# EAGLE library part FPC-37WAY (library pimoroni-fpc)
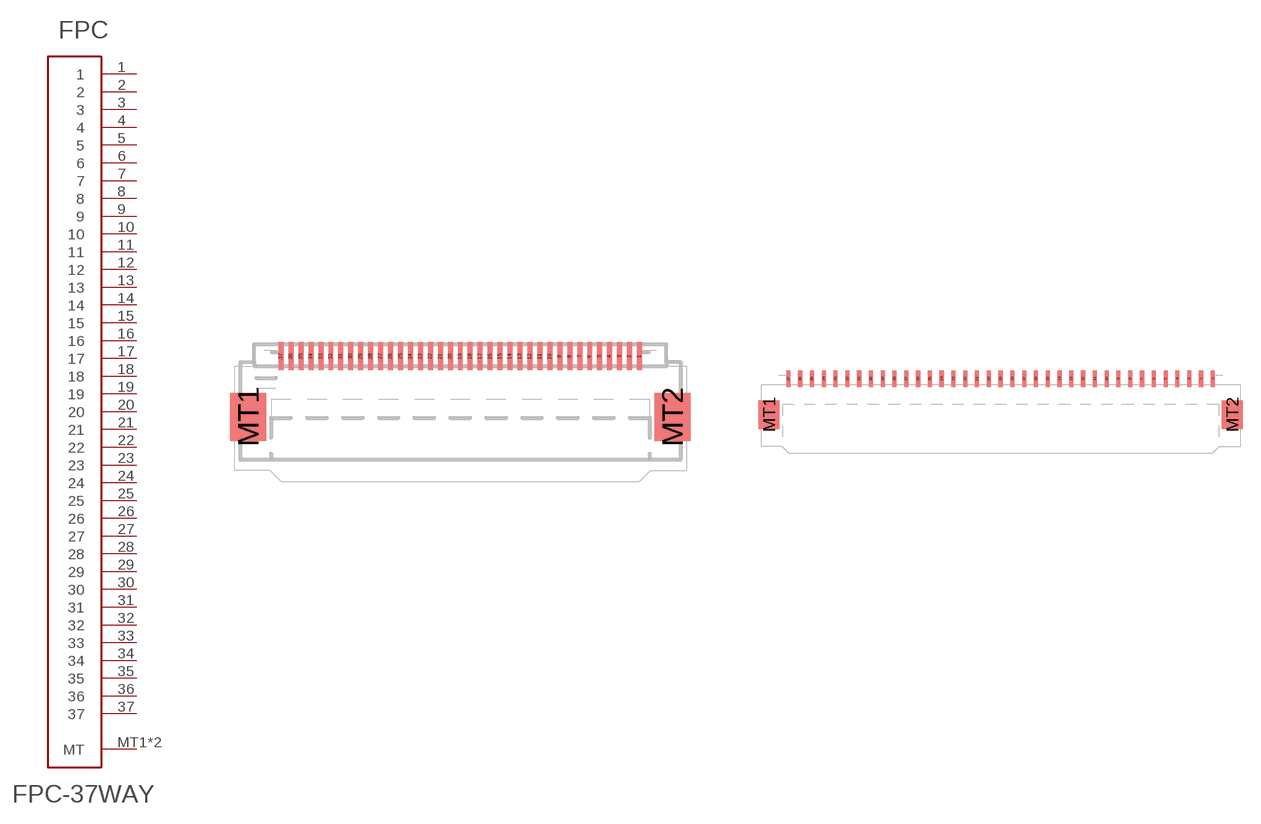
[diagram p32: symbol with the pads of FPC-0.5MM-37WAY; footprints FPC-0.5MM-37WAY, FPC-1.0MM-37WAY]

Designator prefix FPC

## FPC-37WAY0.5  [FPC-0.5MM-37WAY]
1  1
2  2
3  3
4  4
5  5
6  6
7  7
8  8
9  9
10  10
11  11
12  12
13  13
14  14
15  15
16  16
17  17
18  18
19  19
20  20
21  21
22  22
23  23
24  24
25  25
26  26
27  27
28  28
29  29
30  30
31  31
32  32
33  33
34  34
35  35
36  36
37  37
MT1  MT
MT2  MT

## FPC-37WAY1.0  [FPC-1.0MM-37WAY]
Pads as for FPC-0.5MM-37WAY

## Footprint FPC-0.5MM-37WAY (pad centres in mm)
smd 0.25 x 1.4: 1 9,0.7; 2 8.5,0.7; 3 8,0.7; 4 7.5,0.7; 5 7,0.7; 6 6.5,0.7; 7 6,0.7; 8 5.5,0.7; 9 5,0.7; 10 4.5,0.7; 11 4,0.7; 12 3.5,0.7; 13 3,0.7; 14 2.5,0.7; 15 2,0.7; 16 1.5,0.7; 17 1,0.7; 18 0.5,0.7; 19 0,0.7; 20 -0.5,0.7; 21 -1,0.7; 22 -1.5,0.7; 23 -2,0.7; 24 -2.5,0.7; 25 -3,0.7; 26 -3.5,0.7; 27 -4,0.7; 28 -4.5,0.7; 29 -5,0.7; 30 -5.5,0.7; 31 -6,0.7; 32 -6.5,0.7; 33 -7,0.7; 34 -7.5,0.7; 35 -8,0.7; 36 -8.5,0.7; 37 -9,0.7
smd 1.8 x 2.4: MT1 -10.65,-2.35; MT2 10.65,-2.35

## Footprint FPC-1.0MM-37WAY (pad centres in mm)
smd 0.35 x 1.4: 1 18,0.7; 2 17,0.7; 3 16,0.7; 4 15,0.7; 5 14,0.7; 6 13,0.7; 7 12,0.7; 8 11,0.7; 9 10,0.7; 10 9,0.7; 11 8,0.7; 12 7,0.7; 13 6,0.7; 14 5,0.7; 15 4,0.7; 16 3,0.7; 17 2,0.7; 18 1,0.7; 19 0,0.7; 20 -1,0.7; 21 -2,0.7; 22 -3,0.7; 23 -4,0.7; 24 -5,0.7; 25 -6,0.7; 26 -7,0.7; 27 -8,0.7; 28 -9,0.7; 29 -10,0.7; 30 -11,0.7; 31 -12,0.7; 32 -13,0.7; 33 -14,0.7; 34 -15,0.7; 35 -16,0.7; 36 -17,0.7; 37 -18,0.7
smd 1.8 x 2.4: MT1 -19.65,-2.35; MT2 19.65,-2.35